# Altium footprint library PcbLib1.PcbLib: 202 footprints (part 9 of 13)
Each footprint in its own frame and in the unit in brackets; x right, y up, seen from the top. Pads: shape width x height; smd on the part's side, far side on the other; paste and mask are expansions set on the pad; w line width, h text height; cw(c..) or ccw(c..) is an arc to the next point about the centre after c.
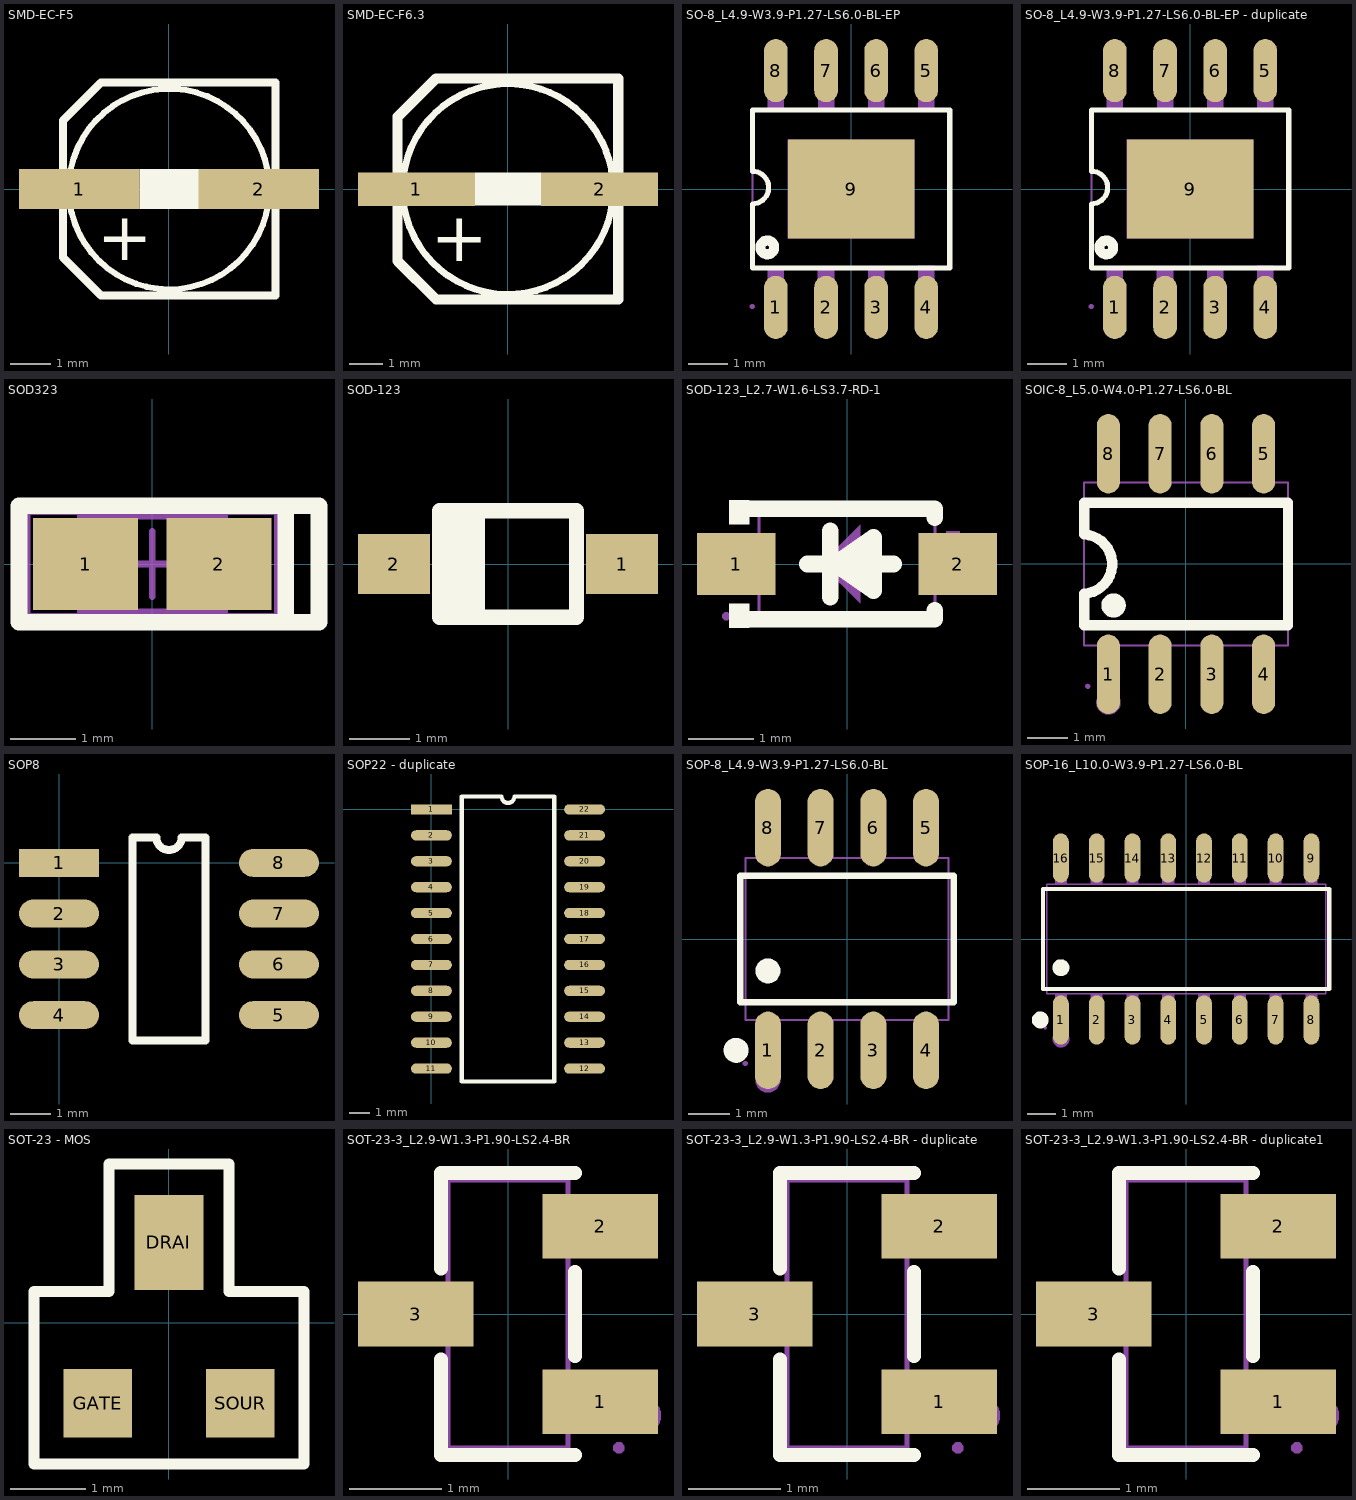
[diagram p8: the footprints below, top view; thin cyan lines are the x and y axes]

## SMD-EC-F5 [mm]
pads (2):
  rect 3x1 smd: 1(-2.238,0) 2(2.238,0)
Top Overlay:
  rectangle: -0.739,-0.5 0.743,0.5
  lines w0.152: 2.174,1.239 ccw(c0.003,0) 2.176,1.235
  lines w0.203: -2.021,-2.33 -2.645,-1.706 ; 2.651,2.656 -1.696,2.656 ; 2.653,-2.654 2.653,2.654 ; 2.653,-2.654 -1.696,-2.654 -1.697,-2.654 -2.645,-1.706 ; -2.645,-1.706 -2.645,1.707 -1.697,2.655 ; -1.697,2.655 -1.696,2.656
  text "+" at -1.794,-1.777 h1.2

## SMD-EC-F6.3 [mm]
pads (2):
  rect 3.5x1 smd: 1(-2.737,0) 2(2.737,0)
Top Overlay:
  rectangle: -0.991,-0.496 0.993,0.5
  lines w0.203: 2.93,1.154 cw(c-0.001,0.002) 2.93,1.156
  lines w0.305: -2.151,-3.303 -3.301,-2.152 -3.301,2.163 -2.151,3.314 ; -2.148,-3.305 3.299,-3.305 3.299,3.309 -2.145,3.309
  text "+" at -2.307,-2.164 h1.5

## SO-8_L4.9-W3.9-P1.27-LS6.0-BL-EP [mm]
pads (9):
  oval 0.6x1.6 smd: 1(-1.905,-3) 2(-0.635,-3) 3(0.635,-3) 4(1.905,-3) 5(1.905,3) 6(0.635,3) 7(-0.635,3) 8(-1.905,3)
  rect 3.2x2.5 smd: 9(0,0)
Top Overlay:
  circle w0.254: c-2.123,-1.48 r0.175
  lines w0.129: -2.499,-0.376 ccw(c-2.5,0.037) -2.5,0.45 -2.5,2 2.5,2 2.5,-2 -2.5,-2 -2.5,-0.375
Mechanical 6:
  circle w0.2: c-1.898,-3.235 r0.1
Mechanical 15:
  region: -2.446,-2.976 -2.446,-2.952 -2.481,-2.916 -2.531,-2.916 -2.566,-2.951 -2.566,-2.976 -2.566,-3.001 -2.531,-3.036 -2.481,-3.036 -2.446,-3.001
  region: -1.6,1.25 1.6,1.25 1.6,-1.25 -1.6,-1.25
  region: -1.7,-2.573 -2.11,-2.573 -2.11,-1.953 -1.7,-1.953
  region: -1.7,-2.97 -2.11,-2.97 -2.11,-2.57 -1.7,-2.57
  region: -0.43,-2.576 -0.84,-2.576 -0.84,-1.956 -0.43,-1.956
  region: -0.43,-2.972 -0.84,-2.972 -0.84,-2.572 -0.43,-2.572
  region: 0.84,-2.573 0.43,-2.573 0.43,-1.953 0.84,-1.953
  region: 0.84,-2.97 0.43,-2.97 0.43,-2.57 0.84,-2.57
  region: 2.11,-2.568 1.7,-2.568 1.7,-1.948 2.11,-1.948
  region: 2.11,-2.962 1.7,-2.962 1.7,-2.562 2.11,-2.562
  region: -1.7,1.962 -2.11,1.962 -2.11,2.582 -1.7,2.582
  region: -1.7,2.577 -2.11,2.577 -2.11,2.977 -1.7,2.977
  region: -0.427,1.99 -0.837,1.99 -0.837,2.61 -0.427,2.61
  region: -0.43,2.605 -0.84,2.605 -0.84,3.005 -0.43,3.005
  region: 0.843,1.982 0.433,1.982 0.433,2.602 0.843,2.602
  region: 0.84,2.597 0.43,2.597 0.43,2.997 0.84,2.997
  region: 2.11,1.962 1.7,1.962 1.7,2.582 2.11,2.582
  region: 2.11,2.58 1.7,2.58 1.7,2.98 2.11,2.98
  lines w0.051: -2.5,-1.97 2.5,-1.97 2.5,2.03 -2.5,2.03 -2.5,-1.97

## SO-8_L4.9-W3.9-P1.27-LS6.0-BL-EP - duplicate [mm]
pads (9):
  oval 0.6x1.6 smd: 1(-1.905,-3) 2(-0.635,-3) 3(0.635,-3) 4(1.905,-3) 5(1.905,3) 6(0.635,3) 7(-0.635,3) 8(-1.905,3)
  rect 3.2x2.5 smd: 9(0,0)
Top Overlay:
  circle w0.254: c-2.123,-1.48 r0.175
  lines w0.129: -2.499,-0.376 ccw(c-2.5,0.037) -2.5,0.45 -2.5,2 2.5,2 2.5,-2 -2.5,-2 -2.5,-0.375
Mechanical 6:
  circle w0.2: c-1.898,-3.235 r0.1
Mechanical 15:
  region: 2.11,2.58 1.7,2.58 1.7,2.98 2.11,2.98
  region: 2.11,1.962 1.7,1.962 1.7,2.582 2.11,2.582
  region: 0.84,2.597 0.43,2.597 0.43,2.997 0.84,2.997
  region: 0.843,1.982 0.433,1.982 0.433,2.602 0.843,2.602
  region: -0.43,2.605 -0.84,2.605 -0.84,3.005 -0.43,3.005
  region: -0.427,1.99 -0.837,1.99 -0.837,2.61 -0.427,2.61
  region: -1.7,2.577 -2.11,2.577 -2.11,2.977 -1.7,2.977
  region: -1.7,1.962 -2.11,1.962 -2.11,2.582 -1.7,2.582
  region: 2.11,-2.962 1.7,-2.962 1.7,-2.562 2.11,-2.562
  region: 2.11,-2.568 1.7,-2.568 1.7,-1.948 2.11,-1.948
  region: 0.84,-2.97 0.43,-2.97 0.43,-2.57 0.84,-2.57
  region: 0.84,-2.573 0.43,-2.573 0.43,-1.953 0.84,-1.953
  region: -0.43,-2.972 -0.84,-2.972 -0.84,-2.572 -0.43,-2.572
  region: -0.43,-2.576 -0.84,-2.576 -0.84,-1.956 -0.43,-1.956
  region: -1.7,-2.97 -2.11,-2.97 -2.11,-2.57 -1.7,-2.57
  region: -1.7,-2.573 -2.11,-2.573 -2.11,-1.953 -1.7,-1.953
  region: -1.6,1.25 1.6,1.25 1.6,-1.25 -1.6,-1.25
  region: -2.446,-2.976 -2.446,-2.952 -2.481,-2.916 -2.531,-2.916 -2.566,-2.951 -2.566,-2.976 -2.566,-3.001 -2.531,-3.036 -2.481,-3.036 -2.446,-3.001
  lines w0.051: -2.5,-1.97 -2.5,2.03 2.5,2.03 2.5,-1.97 -2.5,-1.97

## SOD323 [mm] "Chip Capacitor, Body 2.0x1.3mm, IPC High Density"
height 1.4
pads (2):
  rect 1.6x1.4 smd: 1(-1.016,0) 2(1.016,0)
Top Overlay:
  lines w0.254: 2.032,-0.889 2.032,0.889 ; 2.032,-0.889 -2.032,-0.889 -2.032,0.889 2.032,0.889 ; 2.032,-0.889 2.54,-0.889 2.54,0.889 2.032,0.889
Mechanical 13:
  lines w0.1: -1.1,-0.725 1.1,-0.725 1.1,0.725 -1.1,0.725 -1.1,-0.725
Mechanical 15:
  lines w0.1: -0.5,0 0.5,0 ; 0,-0.5 0,0.5 ; -1.905,-0.8 1.905,-0.8 1.905,0.8 -1.905,0.8 -1.905,-0.8
3D body: height 1.4, standoff 0, extent -1.1,-0.725 1.1,0.725

## SOD-123 [mm]
height 1
pads (2):
  rect 1.2x1 smd: 1(1.905,0) 2(-1.905,0)
Top Overlay:
  rectangle: -1.143,-0.889 -0.508,0.889
  lines w0.254: -0.508,-0.889 -0.508,0.889 ; -1.143,-0.889 -1.143,0.889 1.143,0.889 1.143,-0.889 -1.143,-0.889

## SOD-123_L2.7-W1.6-LS3.7-RD-1 [mm]
pads (2):
  rect 1.2x0.95 smd: 1(-1.7,0) 2(1.7,0)
Top Overlay:
  region: 0.406,-0.406 0.406,0.406 -0.178,0
  region: -1.502,0.977 -1.502,0.607 -1.806,0.607 -1.806,0.977
  region: -1.502,-0.977 -1.502,-0.607 -1.806,-0.607 -1.806,-0.977
  lines w0.254: -1.644,0.849 -1.643,0.85 -1.346,0.85 1.346,0.85 1.346,0.706 ; -1.639,-0.849 -1.638,-0.85 -1.346,-0.85 1.346,-0.85 1.346,-0.706 ; -0.61,0 -0.28,0 ; -0.254,-0.508 -0.254,0.508 ; 0.406,0 0.72,0 ; -0.178,0 0.406,0.406 0.406,-0.406 -0.178,0
Mechanical 6:
  region: 1.19,0.212 2.032,0.212 2.032,0.005 1.189,0.005
  region: 1.525,-0.338 1.525,0.504 1.732,0.504 1.732,-0.339
  region: -2.042,0.124 -1.2,0.124 -1.2,-0.083 -2.042,-0.083
  region: -0.4,0 0.2,-0.6 0.2,0.6
Mechanical 15:
  region: -1.79,-0.8 -1.79,-0.775 -1.825,-0.74 -1.875,-0.74 -1.91,-0.775 -1.91,-0.8 -1.91,-0.825 -1.875,-0.86 -1.825,-0.86 -1.79,-0.825
  region: -1.51,-0.275 -1.51,0.275 -1.34,0.275 -1.34,-0.275
  region: -1.85,-0.275 -1.85,0.275 -1.5,0.275 -1.5,-0.275
  region: 1.34,-0.275 1.34,0.275 1.51,0.275 1.51,-0.275
  region: 1.5,-0.275 1.5,0.275 1.85,0.275 1.85,-0.275
  lines w0.051: -1.35,-0.8 -1.35,0.8 1.35,0.8 1.35,-0.8 -1.35,-0.8

## SOIC-8_L5.0-W4.0-P1.27-LS6.0-BL [mil]
pads (8):
  oval 22.4x76.8 smd: 1(-75,-106.5) 2(-25,-106.5) 3(25,-106.5) 4(75,-106.5) 5(75,106.5) 6(25,106.5) 7(-25,106.5) 8(-75,106.5)
Top Overlay:
  lines w10: -98.4,28.6 -98.4,59 98.5,59 98.5,-59.1 -98.4,-59.1 -98.4,-28.6 -93.9,-28 -89.5,-26.7 -85.4,-24.7 -81.7,-22.1 -78.4,-18.9 -75.7,-15.2 -73.6,-11.2 -72.2,-6.9 -71.4,-2.4 -71.4,2.2 -72.1,6.7 -73.5,11 -75.6,15.1 -78.3,18.7 -81.5,21.9 -85.3,24.6 -89.3,26.6 -93.7,27.9 -98.2,28.6
  lines w11.8: -75.9,-40 -75.5,-38 -74.5,-36.2 -72.9,-34.9 -71,-34.2 -68.9,-34.2 -67,-34.9 -65.4,-36.2 -64.4,-38 -64.1,-40 -64.4,-42 -65.4,-43.8 -67,-45.1 -68.9,-45.8 -71,-45.8 -72.9,-45.1 -74.5,-43.8 -75.5,-42 -75.9,-40
Mechanical 2:
  lines w11.8: -80.9,-133.9 -80.5,-131.8 -79.5,-130.1 -77.9,-128.8 -76,-128 -73.9,-128 -72,-128.8 -70.4,-130.1 -69.4,-131.8 -69.1,-133.9 -69.4,-135.9 -70.4,-137.7 -72,-139 -73.9,-139.7 -76,-139.7 -77.9,-139 -79.5,-137.7 -80.5,-135.9 -80.9,-133.9
Mechanical 6:
  lines w2: -98.4,-78.7 98.5,-78.7 98.5,78.7 -98.4,78.7 -98.4,-78.7
Mechanical 7:
  region: -83,-85.6 -83,-76.4 -66.9,-76.4 -66.9,-85.6
  region: -33,-85.6 -33,-76.4 -16.9,-76.4 -16.9,-85.6
  region: 17,-85.6 17,-76.4 33.1,-76.4 33.1,-85.6
  region: 67,-85.6 67,-76.4 83.1,-76.4 83.1,-85.6
  region: -83,76.4 -83,85.6 -66.9,85.6 -66.9,76.4
  region: -33,76.4 -33,85.6 -16.9,85.6 -16.9,76.4
  region: 17,76.4 17,85.6 33.1,85.6 33.1,76.4
  region: 67,76.4 67,85.6 83.1,85.6 83.1,76.4
Mechanical 8:
  region: -92.6,-118.1 -93,-119.4 -94,-120.3 -95.3,-120.5 -96.5,-119.9 -97.2,-118.8 -97.2,-117.5 -96.5,-116.3 -95.3,-115.8 -94,-116 -93,-116.8
Mechanical 9:
  region: -83,-118.1 -83,-85.2 -66.9,-85.2 -66.9,-118.1
  region: -33,-118.1 -33,-85.2 -16.9,-85.2 -16.9,-118.1
  region: 17,-118.1 17,-85.2 33.1,-85.2 33.1,-118.1
  region: 67,-118.1 67,-85.2 83.1,-85.2 83.1,-118.1
  region: -83,85.2 -83,118.1 -66.9,118.1 -66.9,85.2
  region: -33,85.2 -33,118.1 -16.9,118.1 -16.9,85.2
  region: 17,85.2 17,118.1 33.1,118.1 33.1,85.2
  region: 67,85.2 67,118.1 83.1,118.1 83.1,85.2

## SOP8 [mm]
pads (8):
  rect 2x0.7 smd: 1(0,0)
  oval 2x0.7 smd: 2(0,-1.27) 3(0,-2.54) 4(0,-3.81) 5(5.5,-3.81) 6(5.5,-2.54) 7(5.5,-1.27) 8(5.5,0)
Top Overlay:
  lines w0.2: 1.835,-4.445 1.835,0.635 2.432,0.635 ccw(c2.75,0.635) 3.067,0.635 3.665,0.635 3.665,-4.445 1.835,-4.445

## SOP22 - duplicate [mm]
pads (22):
  rect 2x0.5 smd: 1(0,0)
  oval 2x0.5 smd: 2(0,-1.27) 3(0,-2.54) 4(0,-3.81) 5(0,-5.08) 6(0,-6.35) 7(0,-7.62) 8(0,-8.89) 9(0,-10.16) 10(0,-11.43) 11(0,-12.7) 12(7.5,-12.7) 13(7.5,-11.43) 14(7.5,-10.16) 15(7.5,-8.89) 16(7.5,-7.62) 17(7.5,-6.35) 18(7.5,-5.08) 19(7.5,-3.81) 20(7.5,-2.54) 21(7.5,-1.27) 22(7.5,0)
Top Overlay:
  lines w0.2: 1.485,-13.335 1.485,0.635 3.433,0.635 ccw(c3.75,0.635) 4.068,0.635 6.015,0.635 6.015,-13.335 1.485,-13.335

## SOP-8_L4.9-W3.9-P1.27-LS6.0-BL [mm]
pads (8):
  oval 0.63x1.865 smd: 1(-1.905,-2.682) 2(-0.635,-2.682) 3(0.635,-2.682) 4(1.905,-2.682) 5(1.905,2.682) 6(0.635,2.682) 7(-0.635,2.682) 8(-1.905,2.682)
Top Overlay:
  circle w0.3: c-2.672,-2.682 r0.15
  circle w0.3: c-1.905,-0.769 r0.15
  lines w0.152: -2.576,-1.521 2.576,-1.521 2.576,1.521 -2.576,1.521 -2.576,-1.521
Mechanical 6:
  circle w0.3: c-1.905,-3.4 r0.15
Mechanical 15:
  region: -2.115,-3 -2.115,-2.165 -1.695,-2.165 -1.695,-3
  region: -2.115,-2.175 -2.115,-1.94 -1.695,-1.94 -1.695,-2.175
  region: -0.845,-3 -0.845,-2.165 -0.425,-2.165 -0.425,-3
  region: -0.845,-2.175 -0.845,-1.94 -0.425,-1.94 -0.425,-2.175
  region: 0.425,-3 0.425,-2.165 0.845,-2.165 0.845,-3
  region: 0.425,-2.175 0.425,-1.94 0.845,-1.94 0.845,-2.175
  region: 1.695,-3 1.695,-2.165 2.115,-2.165 2.115,-3
  region: 1.695,-2.175 1.695,-1.94 2.115,-1.94 2.115,-2.175
  region: -2.115,2.165 -2.115,3 -1.695,3 -1.695,2.165
  region: -2.115,1.94 -2.115,2.175 -1.695,2.175 -1.695,1.94
  region: -0.845,2.165 -0.845,3 -0.425,3 -0.425,2.165
  region: -0.845,1.94 -0.845,2.175 -0.425,2.175 -0.425,1.94
  region: 0.425,2.165 0.425,3 0.845,3 0.845,2.165
  region: 0.425,1.94 0.425,2.175 0.845,2.175 0.845,1.94
  region: 1.695,2.165 1.695,3 2.115,3 2.115,2.165
  region: 1.695,1.94 1.695,2.175 2.115,2.175 2.115,1.94
  region: -2.39,-3 -2.391,-2.976 -2.426,-2.941 -2.475,-2.941 -2.51,-2.976 -2.51,-3 -2.51,-3.025 -2.475,-3.059 -2.426,-3.059 -2.391,-3.024
  lines w0.051: -2.45,-1.95 2.45,-1.95 2.45,1.95 -2.45,1.95 -2.45,-1.95

## SOP-16_L10.0-W3.9-P1.27-LS6.0-BL [mm]
pads (16):
  oval 0.56x1.745 smd: 1(-4.445,-2.872) 2(-3.175,-2.872) 3(-1.905,-2.872) 4(-0.635,-2.872) 5(0.635,-2.872) 6(1.905,-2.872) 7(3.175,-2.872) 8(4.445,-2.872) 9(4.445,2.872) 10(3.175,2.872) 11(1.905,2.872) 12(0.635,2.872) 13(-0.635,2.872) 14(-1.905,2.872) 15(-3.175,2.872) 16(-4.445,2.872)
Top Overlay:
  circle w0.3: c-4.445,-1.019 r0.15
  circle w0.3: c-5.177,-2.872 r0.15
  lines w0.152: -5.076,-1.771 -5.076,1.771 5.076,1.771 5.076,-1.771 -5.076,-1.771
Mechanical 6:
  circle w0.3: c-4.445,-3.55 r0.15
Mechanical 15:
  drawing of 37 lines, arcs and shapes, not listed

## SOT-23 - MOS [mil]
pads (3):
  rect 36x50 smd: DRAI(0,42.18)
  rect 36x36 smd: GATE(-37.4,-42.18) SOUR(37.4,-42.18)
Top Overlay:
  lines w5.91: -70.87,-74.11 70.87,-74.11 70.87,16.44 31.5,16.44 31.5,83.37 -31.5,83.37 -31.5,16.44 -70.87,16.44 -70.87,-74.11
3D body "SOT-23.STEP": height 43, standoff 0, extent -55,-51 55,45

## SOT-23-3_L2.9-W1.3-P1.90-LS2.4-BR [mm]
pads (3):
  rect 1.25x0.7 smd: 1(1,-0.95) 2(1,0.95) 3(-1,0)
Top Overlay:
  lines w0.152: -0.726,-0.495 -0.726,-1.526 0.726,-1.526 ; -0.726,0.495 -0.726,1.526 0.726,1.526 ; 0.726,-0.455 0.726,0.455
Mechanical 6:
  circle w0.2: c1.46,-1.1 r0.1
Mechanical 15:
  region: -1.2,-0.215 -1.2,0.215 -0.9,0.215 -0.9,-0.215
  region: -0.91,-0.215 -0.91,0.215 -0.64,0.215 -0.64,-0.215
  region: 0.9,-1.165 0.9,-0.735 1.2,-0.735 1.2,-1.165
  region: 0.64,-1.165 0.64,-0.735 0.91,-0.735 0.91,-1.165
  region: 0.9,0.735 0.9,1.165 1.2,1.165 1.2,0.735
  region: 0.64,0.735 0.64,1.165 0.91,1.165 0.91,0.735
  region: 1.26,-1.45 1.259,-1.426 1.224,-1.392 1.176,-1.392 1.141,-1.426 1.14,-1.45 1.141,-1.474 1.176,-1.508 1.224,-1.508 1.259,-1.474
  lines w0.051: -0.65,-1.45 0.65,-1.45 0.65,1.45 -0.65,1.45 -0.65,-1.45

## SOT-23-3_L2.9-W1.3-P1.90-LS2.4-BR - duplicate [mm]
pads (3):
  rect 1.25x0.7 smd: 1(1,-0.95) 2(1,0.95) 3(-1,0)
Top Overlay:
  lines w0.152: -0.726,-0.495 -0.726,-1.526 0.726,-1.526 ; -0.726,0.495 -0.726,1.526 0.726,1.526 ; 0.726,-0.455 0.726,0.455
Mechanical 6:
  circle w0.2: c1.46,-1.1 r0.1
Mechanical 15:
  region: 1.26,-1.45 1.259,-1.426 1.224,-1.392 1.176,-1.392 1.141,-1.426 1.14,-1.45 1.141,-1.474 1.176,-1.508 1.224,-1.508 1.259,-1.474
  region: 0.64,0.735 0.64,1.165 0.91,1.165 0.91,0.735
  region: 0.9,0.735 0.9,1.165 1.2,1.165 1.2,0.735
  region: 0.64,-1.165 0.64,-0.735 0.91,-0.735 0.91,-1.165
  region: 0.9,-1.165 0.9,-0.735 1.2,-0.735 1.2,-1.165
  region: -0.91,-0.215 -0.91,0.215 -0.64,0.215 -0.64,-0.215
  region: -1.2,-0.215 -1.2,0.215 -0.9,0.215 -0.9,-0.215
  lines w0.051: -0.65,-1.45 -0.65,1.45 0.65,1.45 0.65,-1.45 -0.65,-1.45

## SOT-23-3_L2.9-W1.3-P1.90-LS2.4-BR - duplicate1 [mm]
pads (3):
  rect 1.25x0.7 smd: 1(1,-0.95) 2(1,0.95) 3(-1,0)
Top Overlay:
  lines w0.152: -0.726,-0.495 -0.726,-1.526 0.726,-1.526 ; -0.726,0.495 -0.726,1.526 0.726,1.526 ; 0.726,-0.455 0.726,0.455
Mechanical 6:
  circle w0.2: c1.46,-1.1 r0.1
Mechanical 15:
  region: -1.2,-0.215 -1.2,0.215 -0.9,0.215 -0.9,-0.215
  region: -0.91,-0.215 -0.91,0.215 -0.64,0.215 -0.64,-0.215
  region: 0.9,-1.165 0.9,-0.735 1.2,-0.735 1.2,-1.165
  region: 0.64,-1.165 0.64,-0.735 0.91,-0.735 0.91,-1.165
  region: 0.9,0.735 0.9,1.165 1.2,1.165 1.2,0.735
  region: 0.64,0.735 0.64,1.165 0.91,1.165 0.91,0.735
  region: 1.26,-1.45 1.259,-1.426 1.224,-1.392 1.176,-1.392 1.141,-1.426 1.14,-1.45 1.141,-1.474 1.176,-1.508 1.224,-1.508 1.259,-1.474
  lines w0.051: -0.65,-1.45 0.65,-1.45 0.65,1.45 -0.65,1.45 -0.65,-1.45